# Altium schematic symbol library Transistor.SchLib: 2 symbols
Pins are listed as number, name and electrical type; pins without a type are passive.

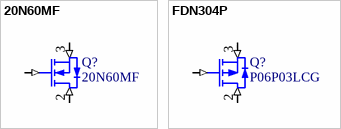
[diagram p0: symbols 20N60MF to FDN304P]

## 20N60MF
designator Q?
DIS: MOS管(P06P03LCG); SN: CL0010616
footprint TO-220
footprint TO-220V
pins: 1 G (in), 2 D (in), 3 S (in)

## FDN304P
designator Q?, comment P06P03LCG
DIS: MOS管(P06P03LCG); SN: CL0010616
footprint SOT-89-3
pins: 1 G (in), 2 D (in), 3 S (in)